# Altium footprint library 100uF_elect.PcbLib: 1 footprints
Each footprint in its own frame and in the unit in brackets; x right, y up, seen from the top. Pads: shape width x height; smd on the part's side, far side on the other; paste and mask are expansions set on the pad; w line width, h text height; cw(c..) or ccw(c..) is an arc to the next point about the centre after c.
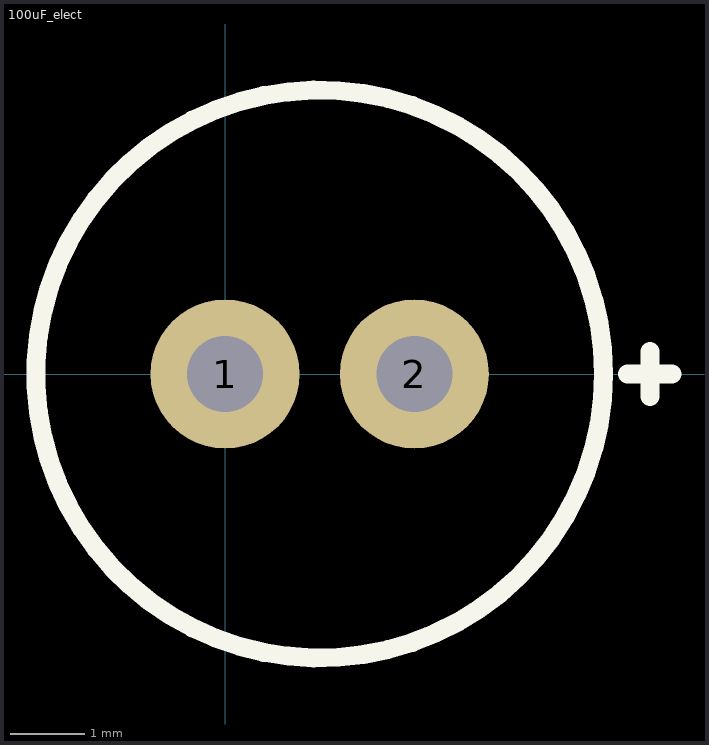
[diagram p0: the footprint, top view; thin cyan lines are the x and y axes]

## 100uF_elect [mm]
pads (2):
  round 2 hole 1.02: 1(0,0) 2(2.54,0)
Top Overlay:
  circle w0.254: c1.27,0 r3.81
  lines w0.254: 5.4,0 6,0 ; 5.7,-0.3 5.7,0.3